# Altium schematic symbol library V2.6.0_ChipSatSchLib.SchLib: 61 symbols
Pins are listed as number, name and electrical type; pins without a type are passive.

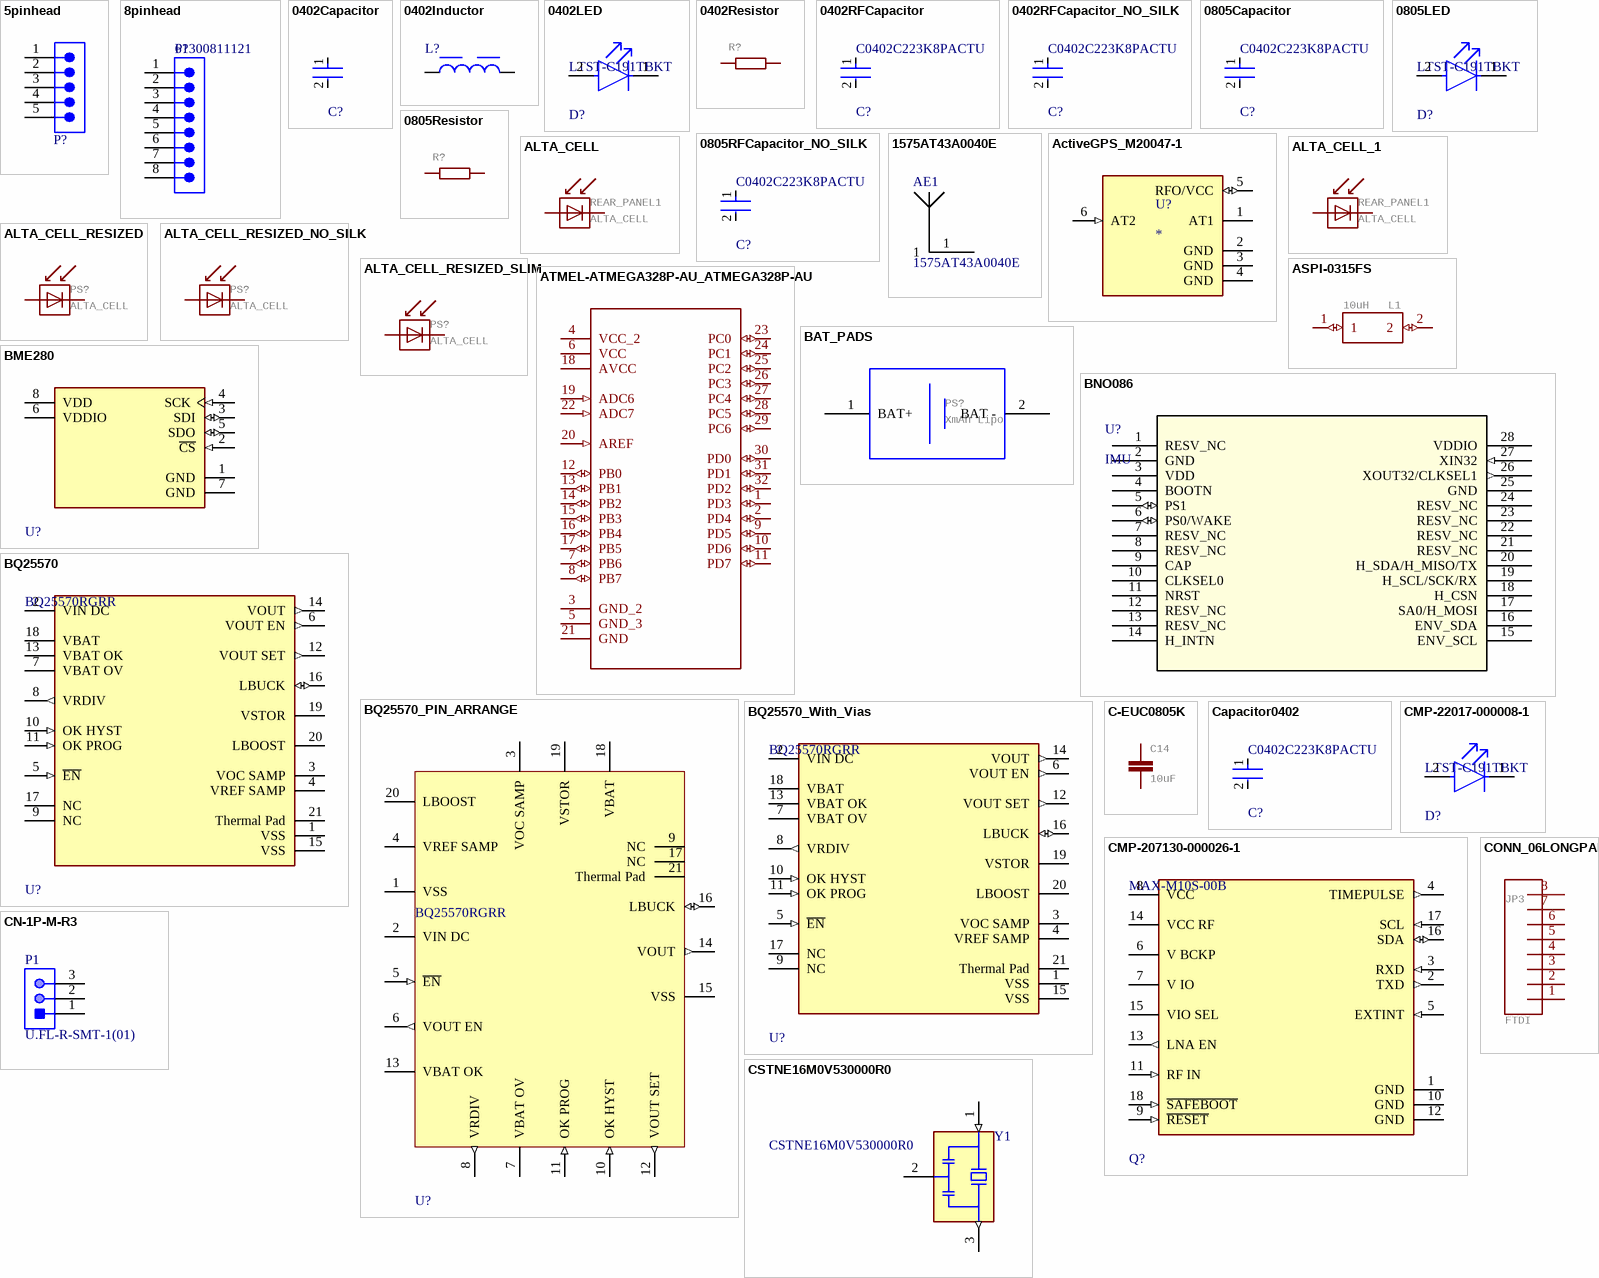
[diagram p0: symbols 5pinhead to CSTNE16M0V530000R0]

## 5pinhead
designator P?, comment 61300511121  (value not drawn)
WR-PHD Pin Header, THT, Vertical, pitch 2.54mm, 1 Row, 5P; Manufacturer: Wurth Elektronik; Contact Resistance: 20mOhm; Rated Current: 3A; Working Voltage: 250V; Withstanding Voltage: 500V; Manufacturer Part Number: 61300511121; Category: Board-to-Board Connectors; Match Code: WR-PHD; ComponentLink1Description: Website Link; ComponentLink1URL: https://www.we-online.com/redexpert/article/61300511121?ad; ComponentLink2Description: Datasheet Link; ComponentLink2URL: https://www.we-online.com/redexpert/spec/61300511121?ad; Mount: Through Hole; Operating Temperature Max: 105°C; Operating Temperature Min: -40°C; Packaging: Bag; Gender: Pin Header; Number of Pins: 5; Number of Rows: 1; Orientation: Vertical; Pitch: 2.54mm
footprint 5pinhead (Pin Header, pitch 2.54 mm, THT, Vertical, single row, 5p)
pins: 1, 2, 3, 4, 5

## 8pinhead
designator P?, comment 61300811121
NexarPartId: 32855533; Connector Type: Male Pin; Number of Contacts: 8; Voltage Rating: 250V; Current Rating: 3A; Contact Resistance: 20mΩ; Pitch: 2.54mm; Gender: Male; Termination: Solder; Contact Material: Copper; Mount: Through Hole; Lead Pitch: 2.54mm; Number of Positions: 8; Operating Supply Voltage: 250V; Number of Pins: 8; Max Operating Temperature: 105°C; Height: 8.54mm; REACH SVHC: Unknown; Number of Rows: 1; Packaging: Bulk; Contact Plating: Gold; Contact Mating Length: 5.9944mm; Orientation: Vertical; RoHS: Compliant; Color: Black; Min Operating Temperature: -40°C
footprint 8pinhead (Pin Header, pitch 2.54 mm, THT, Vertical, single row, 8p)
pins: 1, 2, 3, 4, 5, 6, 7, 8

## 0402Capacitor
designator C?
Manufacturer Part Number: C0402C223K8PACTU; Manufacturer: Kemet; Capacitance: 22,000 pF; Value: 22,000 pF; Temperature Coefficient: 15%; Material: Ceramic; Voltage Rating: 10 V; Temperature Characteristic: X5R; Tolerance: 0.1; RoHS: TRUE; Octopart: https://octopart.com/c0402c223k8pactu-kemet-140074; Category: Cap; Lead Free: Yes; Automotive: No; Height: 0.55mm; Ipc Land Pattern Name: CAPC10050X50; ComponentLink2URL: https://content.kemet.com/datasheets/KEM_C1002_X7R_SMD.pdf; Device Class L2: Capacitors; Temperature Range Low: -55°C; ComponentLink2Description: Datasheet; Mouser Description: Multilayer Ceramic Capacitors MLCC - SMD/SMT 10volts 22000pF X5R 10%; Device Class L3: Ceramic Capacitors; Package: C0402-BB; Digikey Description: CAP CER 0.022UF 10V X5R 0402; Temperature: -55°C to +125°C; Device Class L1: Passive Components; Temperature Range High: +125°C
footprint 0402CAP
pins: 1, 2

## 0402Inductor
designator L?
NexarPartId: 8917062; Tolerance: 30%; Saturation Current: 500mA; Series Resistance: 300mΩ; Shielding: Shielded; Core Material: Ferrite; Resistance: 390mΩ; Max DC Current: 800mA; Inductance: 10µH; Self Resonant Frequency: 40MHz; Test Frequency: 100kHz; RMS Current (Irms): 650mA; Min Operating Temperature: -40°C; Mount: Surface Mount; Height - Seated (Max): 1.4986mm; Width: 2.78mm; Number of Pins: 2; Ambient Temperature Range High: 85°C; Lead Free: Lead Free; Case/Package: Nonstandard; Weight: 32.006612mg; REACH SVHC: Unknown; Depth: 2.8mm; Height: 1.35mm; Length: 2.78mm; RoHS: Compliant; Max Operating Temperature: 125°C; DC Resistance (DCR): 390mΩ; Inductance Tolerance: 30%; Composition: Wirewound; Current Rating: 650mA; Ambient Temperature Range Low: -40°C; Termination: SMD/SMT; Packaging: Cut Tape (CT)
footprint 0402
pins: 1, 2

## 0402LED
designator D?, comment LTST-C191TBKT
LED BLUE CLEAR CHIP SMD; Lens Color: Colorless; Dominant Wavelength: 475nm; Forward Current: 20mA; Wavelength: 468nm; Viewing Angle: 130°; Power Dissipation: 76mW; Luminous Intensity: 180mcd; Reverse Voltage: 5V; Number of Elements: 1; Lens Style: Diffused; Forward Voltage: 3.8V; Max Power Dissipation: 75mW; Case Code (Metric): 1608; Packaging: Tape and Reel; Case/Package: 0603; Depth: 1.6mm; Mount: Surface Mount; Lead Free: Lead Free; Min Operating Temperature: -20°C; Lens Transparency: Clear; Illumination Color: Blue; Height: 0.55mm; Test Current: 20mA; Case Code (Imperial): 0603; Max Operating Temperature: 80°C; Number of Pins: 2; Length: 0.8mm; Radiation Hardening: No; Package Quantity: 1; Number of LEDs: 1; Width: 0.8mm; Color: Blue
footprint 0402LED
pins: 1 C, 2 A

## 0402Resistor
designator R?
RESISTOR, European symbol; GateName_1: G$1; SymbolName_1: R-EU; DeviceName: M0805; DeviceSetName: R-EU_; LibraryName: rcl
footprint 0402
pins: 1, 2

## 0402RFCapacitor
designator C?, comment C0402C223K8PACTU
CAP CER 0.022UF 10V X5R 0402; Manufacturer: Kemet; Capacitance: 22,000 pF; Value: 22,000 pF; Temperature Coefficient: 15%; Material: Ceramic; Tolerance: 0.1; RoHS: TRUE; Octopart: https://octopart.com/c0402c223k8pactu-kemet-140074; Category: Cap; Manufacturer Part Number: C0402C223K8PACTU; Lead Free: Yes; Automotive: No; Height: 0.55mm; Ipc Land Pattern Name: CAPC10050X50; ComponentLink2URL: https://content.kemet.com/datasheets/KEM_C1002_X7R_SMD.pdf; Device Class L2: Capacitors; Temperature Range Low: -55°C; ComponentLink2Description: Datasheet; Mouser Description: Multilayer Ceramic Capacitors MLCC - SMD/SMT 10volts 22000pF X5R 10%; Voltage Rating: 10 V; Device Class L3: Ceramic Capacitors; Package: C0402-BB; Digikey Description: CAP CER 0.022UF 10V X5R 0402; Temperature Characteristic: X5R; Temperature: -55°C to +125°C; Device Class L1: Passive Components; Temperature Range High: +125°C
footprint 0402RFCapacitor
pins: 1, 2

## 0402RFCapacitor_NO_SILK
designator C?, comment C0402C223K8PACTU
CAP CER 0.022UF 10V X5R 0402; Manufacturer: Kemet; Capacitance: 22,000 pF; Value: 22,000 pF; Temperature Coefficient: 15%; Material: Ceramic; Tolerance: 0.1; RoHS: TRUE; Octopart: https://octopart.com/c0402c223k8pactu-kemet-140074; Category: Cap; Manufacturer Part Number: C0402C223K8PACTU; Lead Free: Yes; Automotive: No; Height: 0.55mm; Ipc Land Pattern Name: CAPC10050X50; ComponentLink2URL: https://content.kemet.com/datasheets/KEM_C1002_X7R_SMD.pdf; Device Class L2: Capacitors; Temperature Range Low: -55°C; ComponentLink2Description: Datasheet; Mouser Description: Multilayer Ceramic Capacitors MLCC - SMD/SMT 10volts 22000pF X5R 10%; Voltage Rating: 10 V; Device Class L3: Ceramic Capacitors; Package: C0402-BB; Digikey Description: CAP CER 0.022UF 10V X5R 0402; Temperature Characteristic: X5R; Temperature: -55°C to +125°C; Device Class L1: Passive Components; Temperature Range High: +125°C
footprint PI_NET_CAPACITOR_0402 (Chip Capacitor, Body 1.0x0.5mm, Height 0.6mm, NO SILK)
pins: 1, 2

## 0805Capacitor
designator C?, comment C0402C223K8PACTU
CAP CER 0.022UF 10V X5R 0402; Manufacturer: Kemet; Capacitance: 22,000 pF; Value: 22,000 pF; Temperature Coefficient: 15%; Material: Ceramic; Tolerance: 0.1; RoHS: TRUE; Octopart: https://octopart.com/c0402c223k8pactu-kemet-140074; Category: Cap; Manufacturer Part Number: C0402C223K8PACTU; Lead Free: Yes; Automotive: No; Height: 0.55mm; Ipc Land Pattern Name: CAPC10050X50; ComponentLink2URL: https://content.kemet.com/datasheets/KEM_C1002_X7R_SMD.pdf; Device Class L2: Capacitors; Temperature Range Low: -55°C; ComponentLink2Description: Datasheet; Mouser Description: Multilayer Ceramic Capacitors MLCC - SMD/SMT 10volts 22000pF X5R 10%; Voltage Rating: 10 V; Device Class L3: Ceramic Capacitors; Package: C0402-BB; Digikey Description: CAP CER 0.022UF 10V X5R 0402; Temperature Characteristic: X5R; Temperature: -55°C to +125°C; Device Class L1: Passive Components; Temperature Range High: +125°C
footprint 0805Cap
pins: 1, 2

## 0805LED
designator D?, comment LTST-C191TBKT
LED BLUE CLEAR CHIP SMD; Lens Color: Colorless; Dominant Wavelength: 475nm; Forward Current: 20mA; Wavelength: 468nm; Viewing Angle: 130°; Power Dissipation: 76mW; Luminous Intensity: 180mcd; Reverse Voltage: 5V; Number of Elements: 1; Lens Style: Diffused; Forward Voltage: 3.8V; Max Power Dissipation: 75mW; Case Code (Metric): 1608; Packaging: Tape and Reel; Case/Package: 0603; Depth: 1.6mm; Mount: Surface Mount; Lead Free: Lead Free; Min Operating Temperature: -20°C; Lens Transparency: Clear; Illumination Color: Blue; Height: 0.55mm; Test Current: 20mA; Case Code (Imperial): 0603; Max Operating Temperature: 80°C; Number of Pins: 2; Length: 0.8mm; Radiation Hardening: No; Package Quantity: 1; Number of LEDs: 1; Width: 0.8mm; Color: Blue
footprint 0805LED
pins: 1 C, 2 A

## 0805Resistor
designator R?
RF RESISTOR; GateName_1: G$1; SymbolName_1: R-EU; DeviceName: M0805; DeviceSetName: R-EU_; LibraryName: rcl
footprint 0805Res
pins: 1, 2

## 0805RFCapacitor_NO_SILK
designator C?, comment C0402C223K8PACTU
CAP0805; Manufacturer: Kemet; Capacitance: 22,000 pF; Value: 22,000 pF; Temperature Coefficient: 15%; Material: Ceramic; Voltage Rating: 10 V; Temperature Characteristic: X5R; Tolerance: 0.1; RoHS: TRUE; Octopart: https://octopart.com/c0402c223k8pactu-kemet-140074; Category: Cap; Manufacturer Part Number: C0402C223K8PACTU; Lead Free: Yes; Automotive: No; Height: 0.55mm; Ipc Land Pattern Name: CAPC10050X50; ComponentLink2URL: https://content.kemet.com/datasheets/KEM_C1002_X7R_SMD.pdf; Device Class L2: Capacitors; Temperature Range Low: -55°C; ComponentLink2Description: Datasheet; Mouser Description: Multilayer Ceramic Capacitors MLCC - SMD/SMT 10volts 22000pF X5R 10%; Device Class L3: Ceramic Capacitors; Package: C0402-BB; Digikey Description: CAP CER 0.022UF 10V X5R 0402; Temperature: -55°C to +125°C; Device Class L1: Passive Components; Temperature Range High: +125°C
footprint PI_NET_CAPACITOR_0805
pins: 1, 2

## 1575AT43A0040E
designator AE1
No Description Available; Mfr_Name: Johanson Technology; Digi-Key_Part_Number_3: 712-1003-6-ND; Digi-Key_Part_Number_2: 712-1003-1-ND; Digi-Key_Part_Number_1: 712-1003-2-ND
footprint ANT_1575AT_JOT-L
pins: 1, 1

## ActiveGPS_M20047-1
designator U?
1.584GHz General Purpose Integrated, Trace RF Antenna 1.559GHz ~ 1.609GHz 3dBi Solder Surface Mount / Antenova: Active GNSS Module M20047-1 / https://www.digikey.com/en/products/detail/antenova/M20047-1/9652904?utm_source=oemsecrets&utm_medium=aggregator&utm_campaign=buynow; SnapEDA_Link: https://www.snapeda.com/parts/M20047-1/Antenova/view-part/3078289/?ref=snap; Price: None; MP: M20047-1; Availability: Warning; Value: *; MF: Antenova; Purchase-URL: https://pricing.snapeda.com/search/part/M20047-1/?ref=eda; Package: SMD-7 Antenova
footprint ActiveGPS_M20047-1 (Antenova: Active GNSS Module M20047-1)
pins: 1 AT1, 2 GND (power), 3 GND (power), 4 GND (power), 5 RFO/VCC (io), 6 AT2 (in)

## ALTA_CELL
designator REAR_PANEL1
GateName_1: G$1; SymbolName_1: ALTA_CELL; LibraryName: ALTA_CELL; DeviceSetName: ALTA_CELL
footprint ALTA_CELL_ALTA_CELL
pins: +, -

## ALTA_CELL_1
designator REAR_PANEL1, comment ALTA_CELL
GateName_1: G$1; SymbolName_1: ALTA_CELL; LibraryName: ALTA_CELL; DeviceSetName: ALTA_CELL
pins: +, -

## ALTA_CELL_RESIZED
designator PS?, comment ALTA_CELL
GateName_1: G$1; SymbolName_1: ALTA_CELL; LibraryName: ALTA_CELL; DeviceSetName: ALTA_CELL
footprint ALTA_CELL_SAME_SIZED_FEET (SAME SIZED FEET AND CORRECT POLARITY)
pins: +, -

## ALTA_CELL_RESIZED_NO_SILK
designator PS?, comment ALTA_CELL
No SILK; GateName_1: G$1; SymbolName_1: ALTA_CELL; LibraryName: ALTA_CELL; DeviceSetName: ALTA_CELL
footprint ALTA_CELL_SAME_SIZED_FEET_NO_SILK (SAME SIZED FEET AND CORRECT POLARITY AND SILK CUT)
pins: +, -

## ALTA_CELL_RESIZED_SLIM
designator PS?, comment ALTA_CELL
No SILK; GateName_1: G$1; SymbolName_1: ALTA_CELL; LibraryName: ALTA_CELL; DeviceSetName: ALTA_CELL
footprint ALTA_CELL_SAME_SIZED_FEET_SLIM (SAME SIZED FEET AND CORRECT POLARITY AND SILK CUT)
pins: +, -

## ASPI-0315FS
designator L1, comment 10uH
GateName_1: G$1; SymbolName_1: ASPI-0315FS; LibraryName: ASPI-0315FS; DeviceSetName: ASPI-0315FS
footprint 01005 imperial
pins: 1 (io), 2 (io)

## ATMEL-ATMEGA328P-AU_ATMEGA328P-AU
designator U?
MPN: ATMEGA328P-AU; GateName_1: A; SymbolName_1: ATMEL-ATMEGA328P-AU_ATMEGA328P-AU; LibraryName: AmbaSat-1v1-01-NO-solar; DeviceSetName: ATMEL-ATMEGA328P-AU_ATMEGA328P-AU; Package: ATMEL-ATMEGA328P-AU_QFP80P900X900X120-32N; OC_FARNELL: 1715486; OC_NEWARK: 14R4631; PACKAGE: TQFP-32; SUPPLIER: Atmel
footprint ATMEL-ATMEGA328P-AU_QFP80P900X900X120-32N
pins: 1 PD3 (io), 2 PD4 (io), 3 GND_2, 4 VCC_2 (power), 5 GND_3, 6 VCC (power), 7 PB6 (io), 8 PB7 (io), 9 PD5 (io), 10 PD6 (io), 11 PD7 (io), 12 PB0 (io), 13 PB1 (io), 14 PB2 (io), 15 PB3 (io), 16 PB4 (io), 17 PB5 (io), 18 AVCC (power), 19 ADC6 (in), 20 AREF (in), 21 GND, 22 ADC7 (in), 23 PC0 (io), 24 PC1 (io), 25 PC2 (io), 26 PC3 (io), 27 PC4 (io), 28 PC5 (io), 29 PC6 (io), 30 PD0 (io), 31 PD1 (io), 32 PD2 (io)

## BAT_PADS
designator PS?, comment XmAh Lipo
No SILK; GateName_1: G$1; SymbolName_1: ALTA_CELL; LibraryName: ALTA_CELL; DeviceSetName: ALTA_CELL
footprint BAT_PADS
pins: 1 BAT+, 2 BAT -

## BME280
designator U?  (value not drawn)
Temp and huminity sensor
footprint FP-BME280-MFG
pins: 1 GND (power), 2 ~{CS} (in), 3 SDI (io), 4 SCK (in), 5 SDO (io), 6 VDDIO (power), 7 GND (power), 8 VDD (power)

## BNO086
designator U?, comment IMU
No Description Available; Mfr_Name: CEVA; Type: Motion Sensors; RefDes: RefDes
footprint QFN28_BNO086_CEV
pins: 1 RESV_NC, 2 GND (power), 3 VDD (power), 4 BOOTN, 5 PS1 (io), 6 PS0/WAKE (io), 7 RESV_NC, 8 RESV_NC, 9 CAP, 10 CLKSEL0, 11 NRST, 12 RESV_NC, 13 RESV_NC, 14 H_INTN, 15 ENV_SCL, 16 ENV_SDA, 17 SA0/H_MOSI, 18 H_CSN, 19 H_SCL/SCK/RX, 20 H_SDA/H_MISO/TX, 21 RESV_NC, 22 RESV_NC, 23 RESV_NC, 24 RESV_NC, 25 GND (power), 26 XOUT32/CLKSEL1 (out), 27 XIN32 (in), 28 VDDIO (power)

## BQ25570
designator U?, comment BQ25570RGRR
IC ENERGY HARV CTRLR BATT 20VQFN; Operating Supply Current: 488nA; Switching Frequency: 1MHz; Operating Supply Voltage: 4V; Output Current: 100mA; Packaging: Tape and Reel; Lead Free: Lead Free; Contact Plating: Gold; RoHS Compliant: Yes; Mount: Surface Mount; Case/Package: VQFN; Min Operating Temperature: -40°C; Max Operating Temperature: 125°C; Package Quantity: 3000; Number of Pins: 20
footprint BQ25570 (BQ25570_CC)
pins: 1 VSS (power), 2 VIN DC (power), 3 VOC SAMP (power), 4 VREF SAMP, 5 ~{EN} (in), 6 VOUT EN (out), 7 VBAT OV (power), 8 VRDIV (out), 9 NC, 10 OK HYST (in), 11 OK PROG (in), 12 VOUT SET (out), 13 VBAT OK (power), 14 VOUT (out), 15 VSS (power), 16 LBUCK (io), 17 NC, 18 VBAT (power), 19 VSTOR, 20 LBOOST, 21 Thermal Pad

## BQ25570_PIN_ARRANGE
designator U?, comment BQ25570RGRR
IC ENERGY HARV CTRLR BATT 20VQFN; Operating Supply Current: 488nA; Switching Frequency: 1MHz; Operating Supply Voltage: 4V; Output Current: 100mA; Packaging: Tape and Reel; Lead Free: Lead Free; Contact Plating: Gold; RoHS Compliant: Yes; Mount: Surface Mount; Case/Package: VQFN; Min Operating Temperature: -40°C; Max Operating Temperature: 125°C; Package Quantity: 3000; Number of Pins: 20
footprint BQ25570_With_Vias (BQ25570_CC)
pins: 1 VSS (power), 2 VIN DC (power), 3 VOC SAMP (power), 4 VREF SAMP, 5 ~{EN} (in), 6 VOUT EN (out), 7 VBAT OV (power), 8 VRDIV (out), 9 NC, 10 OK HYST (in), 11 OK PROG (in), 12 VOUT SET (out), 13 VBAT OK (power), 14 VOUT (out), 15 VSS (power), 16 LBUCK (io), 17 NC, 18 VBAT (power), 19 VSTOR, 20 LBOOST, 21 Thermal Pad

## BQ25570_With_Vias
designator U?, comment BQ25570RGRR
IC ENERGY HARV CTRLR BATT 20VQFN; Operating Supply Current: 488nA; Switching Frequency: 1MHz; Operating Supply Voltage: 4V; Output Current: 100mA; Packaging: Tape and Reel; Lead Free: Lead Free; Contact Plating: Gold; RoHS Compliant: Yes; Mount: Surface Mount; Case/Package: VQFN; Min Operating Temperature: -40°C; Max Operating Temperature: 125°C; Package Quantity: 3000; Number of Pins: 20
footprint BQ25570_With_Vias (BQ25570_CC)
pins: 1 VSS (power), 2 VIN DC (power), 3 VOC SAMP (power), 4 VREF SAMP, 5 ~{EN} (in), 6 VOUT EN (out), 7 VBAT OV (power), 8 VRDIV (out), 9 NC, 10 OK HYST (in), 11 OK PROG (in), 12 VOUT SET (out), 13 VBAT OK (power), 14 VOUT (out), 15 VSS (power), 16 LBUCK (io), 17 NC, 18 VBAT (power), 19 VSTOR, 20 LBOOST, 21 Thermal Pad

## C-EUC0805K
designator C14, comment 10uF
CAPACITOR, European symbol; GateName_1: G$1; SymbolName_1: C-EU; DeviceName: C0805K; LibraryName: rcl; DeviceSetName: C-EU
footprint 01005 imperial
pins: 1, 2

## Capacitor0402
designator C?, comment C0402C223K8PACTU
CAP CER 0.022UF 10V X5R 0402; Manufacturer: Kemet; Capacitance: 22,000 pF; Value: 22,000 pF; Temperature Coefficient: 15%; Material: Ceramic; Tolerance: 0.1; RoHS: TRUE; Octopart: https://octopart.com/c0402c223k8pactu-kemet-140074; Category: Cap; Manufacturer Part Number: C0402C223K8PACTU; Lead Free: Yes; Automotive: No; Height: 0.55mm; Ipc Land Pattern Name: CAPC10050X50; ComponentLink2URL: https://content.kemet.com/datasheets/KEM_C1002_X7R_SMD.pdf; Device Class L2: Capacitors; Temperature Range Low: -55°C; ComponentLink2Description: Datasheet; Mouser Description: Multilayer Ceramic Capacitors MLCC - SMD/SMT 10volts 22000pF X5R 10%; Voltage Rating: 10 V; Device Class L3: Ceramic Capacitors; Package: C0402-BB; Digikey Description: CAP CER 0.022UF 10V X5R 0402; Temperature Characteristic: X5R; Temperature: -55°C to +125°C; Device Class L1: Passive Components; Temperature Range High: +125°C
footprint 0402
pins: 1, 2

## CMP-22017-000008-1
designator D?, comment LTST-C191TBKT
LED BLUE CLEAR CHIP SMD; Lens Color: Colorless; Dominant Wavelength: 475nm; Forward Current: 20mA; Wavelength: 468nm; Viewing Angle: 130°; Power Dissipation: 76mW; Luminous Intensity: 180mcd; Reverse Voltage: 5V; Number of Elements: 1; Lens Style: Diffused; Forward Voltage: 3.8V; Max Power Dissipation: 75mW; Case Code (Metric): 1608; Packaging: Tape and Reel; Case/Package: 0603; Depth: 1.6mm; Mount: Surface Mount; Lead Free: Lead Free; Min Operating Temperature: -20°C; Lens Transparency: Clear; Illumination Color: Blue; Height: 0.55mm; Test Current: 20mA; Case Code (Imperial): 0603; Max Operating Temperature: 80°C; Number of Pins: 2; Length: 0.8mm; Radiation Hardening: No; Package Quantity: 1; Number of LEDs: 1; Width: 0.8mm; Color: Blue
footprint FP-LTST-C191TBKT-MFG
pins: 1 C, 2 A

## CMP-207130-000026-1
designator Q?, comment MAX-M10S-00B
GNSS LCC RX, ROM, TCXO, LNA, SAW
footprint FP-MAX-M10S-00B-MFG - duplicate
pins: 1 GND (power), 2 TXD (out), 3 RXD (in), 4 TIMEPULSE (out), 5 EXTINT (in), 6 V BCKP (power), 7 V IO (power), 8 VCC (power), 9 ~{RESET} (in), 10 GND (power), 11 RF IN (in), 12 GND (power), 13 LNA EN (out), 14 VCC RF (power), 15 VIO SEL (power), 16 SDA (io), 17 SCL (in), 18 ~{SAFEBOOT} (in)

## CN-1P-M-R3
designator P1, comment U.FL-R-SMT-1(01)
Ultra Small Coaxial Connector, 6 GHz, -40 to 90 degC, 3-Pin SMD, RoHS, Bulk; Manufacturer: Hirose Electric; Connector Style: U.FL; Impedance: 50Ohm; Dielectric Material: LiquidCrystalPolymer(LCP); Minimum Quantity: UltraMiniatureCoaxial; Online Catalog: U.FLSeries; Featured Product: HiroseU.FLSeries; Frequency - Max: 6GHz; Other Names: H122041 / U.FL-R-SMT-1(01)-ND; Contact Termination: Solder; Body Material: PhosphorBronze; Connector Type: Jack,MalePin; Body Finish: Silver; Center Contact Plating: Gold; Manufacturer URL: https://www.hirose.com; Family: CoaxialConnectors(RF); Fastening Type: Snap-On; Unit PriceUSD: U.FL; Series: U.FL; Package Reference: U.FL-R-SMT; Packaging: Bulk; Standard Package: 100; Mounting Type: SurfaceMount; Quantity Available: Bulk; Housing Color: Silver; Package Description: 3-Pin Surface Mount Device, Body 2.6 x 2.6 mm; Category: Connectors,Interconnects; Operating Temperature: -40degC~90degC; Center Contact Material: PhosphorBronze; Dynamic Catalog: U.FLSeries; Datasheet URL: https://datasheet.ciiva.com/26945/getdatasheetpartid-475239-26945414.pdf; Datasheet Version: Feb-09; Shield Termination: Solder
footprint HRS-U.FL-R-SMT-3_V (SMT, 3-Leads, Body 2.6x2.6mm)
pins: 1, 2, 3

## CONN_06LONGPADS
designator JP3, comment FTDI
Multi connection point. Often used as Generic Header-pin footprint for 0.1 inch spaced/style header connections    On any of the 0.1 inch spaced packages, you can populate with these:  Break Away Headers - Straight (PRT-00116)   Break Away Male Headers - Right Angle (PRT-00553)   Female Headers (PRT-00115)   Break Away Headers - Machine Pin (PRT-00117)   Break Away Female Headers - Swiss Machine Pin (PRT-00743)   Arduino Stackable Header - 6 Pin (PRT-09280)        For SCREWTERMINALS and SPRING TERMINALS visit here:  Screw Terimnals on SparkFun.com (5mm/3.5mm/2.54mm spacing)       This device is also useful as a general connection point to wire up your design to another part of your project. Our various solder wires solder well into these plated through hole pads.  Hook-Up Wire - Assortment (Stranded, 22 AWG) (PRT-11375)   Hook-Up Wire - Assortment (Solid Core, 22 AWG) (PRT-11367)   View the entire wire category on our website here; GateName_1: G$1; SymbolName_1: CONN_06; DeviceName: LONGPADS; LibraryName: SparkFun-Connectors; DeviceSetName: CONN_06
footprint 1X08_OVAL
pins: 1, 2, 3, 4, 5, 6, 7, 8

## CSTNE16M0V530000R0
designator Y1
16MHz Ceramic Resonator Built in Capacitor 15pF Â±0.15% 40 Ohms -40Â°C ~ 125Â°C Surface Mount; MF: {'manufacturer': u'Murata Electronics'}; Value: *; Availability: Unavailable; MP: CSTNE16M0V530000R0; Price: None; Package: None
footprint OSC_CSTNE16M0V530000R0
pins: 1 IN (in), 2 GND (power), 3 OUT (out)

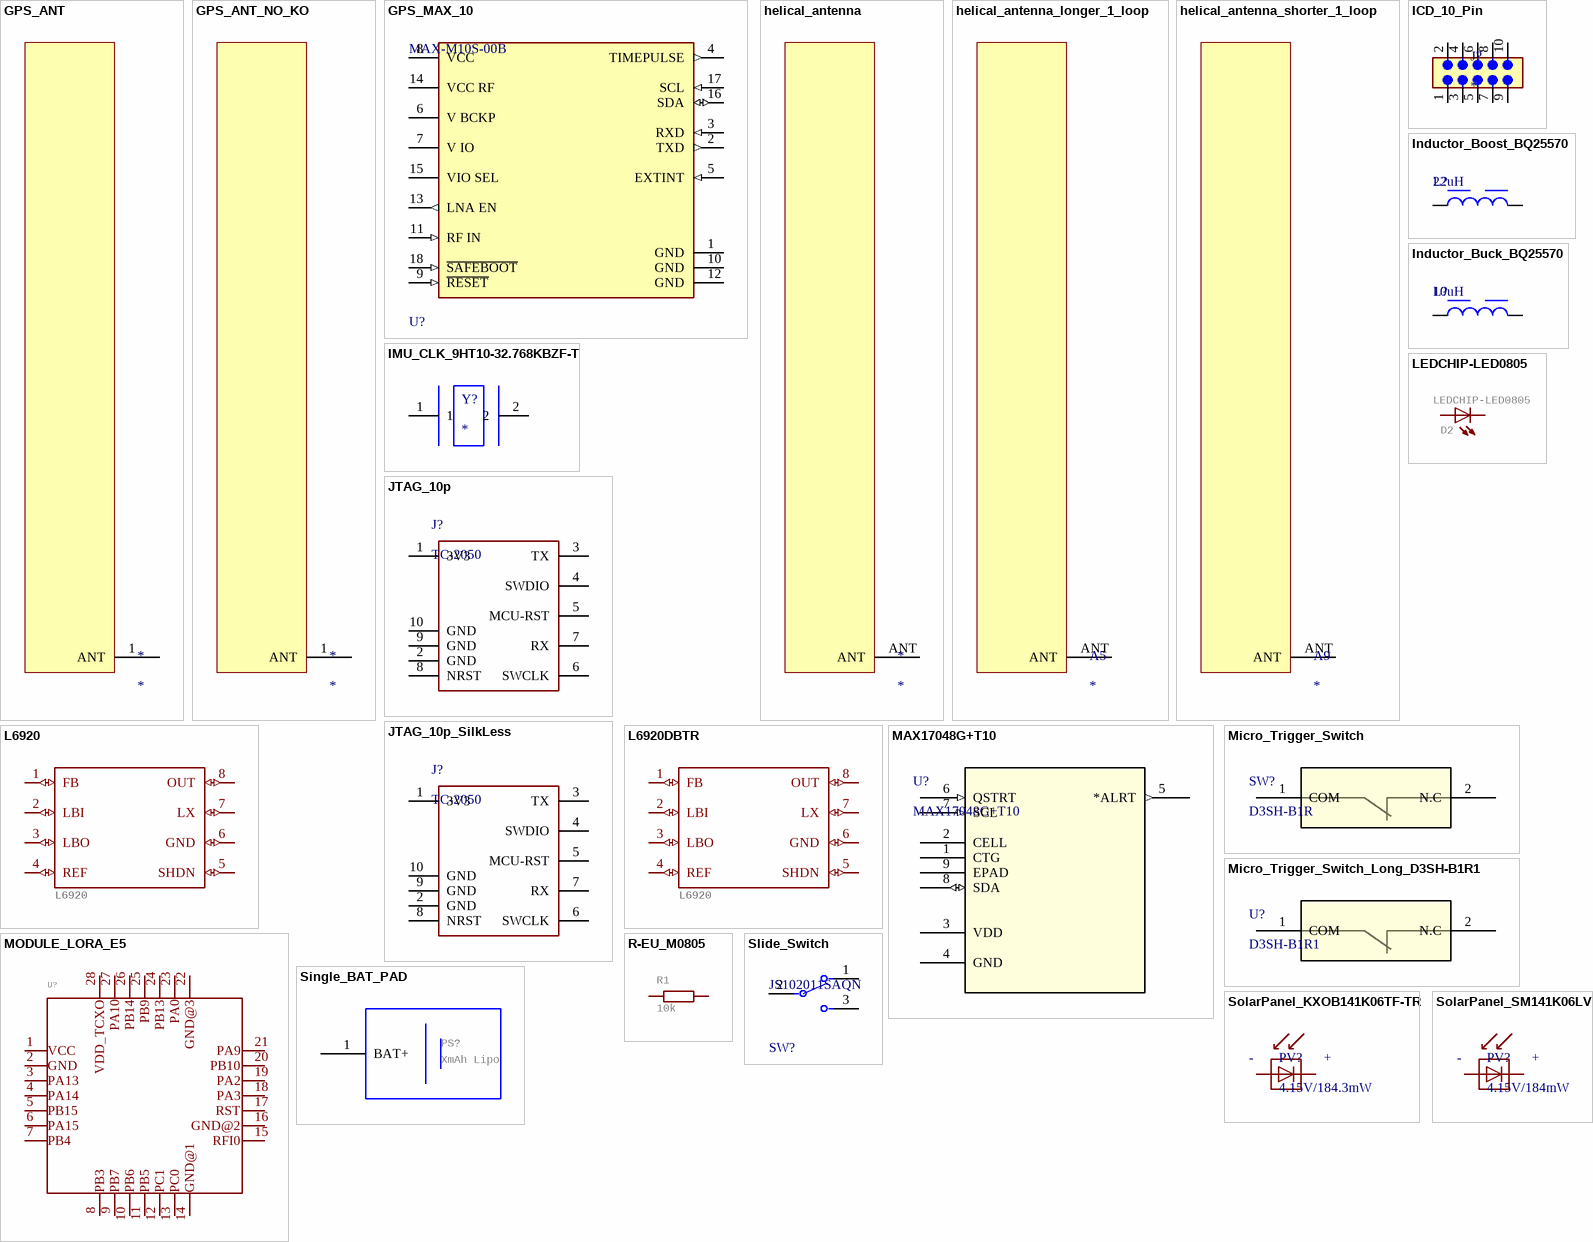
[diagram p1: symbols GPS_ANT to SolarPanel_SM141K06LV]

## GPS_ANT
designator *
helical_antenna schematic for the DeSCENT v1 ChipSat
footprint ANT_1575AT_JOT-L
pins: 1 ANT

## GPS_ANT_NO_KO
designator *
helical_antenna schematic for the DeSCENT v1 ChipSat
footprint GPS_ANT_NO_KO
pins: 1 ANT

## GPS_MAX_10
designator U?, comment MAX-M10S-00B
GNSS LCC RX, ROM, TCXO, LNA, SAW
footprint GPS_MAX_10
pins: 1 GND (power), 2 TXD (out), 3 RXD (in), 4 TIMEPULSE (out), 5 EXTINT (in), 6 V BCKP (power), 7 V IO (power), 8 VCC (power), 9 ~{RESET} (in), 10 GND (power), 11 RF IN (in), 12 GND (power), 13 LNA EN (out), 14 VCC RF (power), 15 VIO SEL (power), 16 SDA (io), 17 SCL (in), 18 ~{SAFEBOOT} (in)

## helical_antenna
designator *
helical_antenna schematic for the DeSCENT v1 ChipSat
footprint PCBComponent_1
pins: ANT

## helical_antenna_longer_1_loop
designator A5
helical_antenna schematic for the DeSCENT v1 ChipSat
footprint LoRa_ANT_915_longer_1_loop
pins: ANT

## helical_antenna_shorter_1_loop
designator A9
helical_antenna schematic for the DeSCENT v1 ChipSat
footprint LoRa_ANT_915_shorter_1_loop
pins: ANT

## ICD_10_Pin
designator J?
61201021621 / ICD_CONN_10_Pin; MF: {'manufacturer': u'W\xfcrth Elektronik'}; Package: None; Price: None; Value: *; MP: 61201021621; Availability: Unavailable
footprint ICD_10_Pin (61201021621)
pins: 1, 2, 3, 4, 5, 6, 7, 8, 9, 10

## IMU_CLK_9HT10-32.768KBZF-T
designator Y?
32.768 kHz Â±50ppm Crystal 12.5pF 70 kOhms 2-SMD, No Lead; MF: TXC; MP: 9HT10-32.768KBZF-T; SnapEDA_Link: https://www.snapeda.com/parts/9HT10-32.768KBZF-T/TXC/view-part/?ref=snap; Package: SMD-2 TXC Corporation; Value: *; Check_prices: https://www.snapeda.com/parts/9HT10-32.768KBZF-T/TXC/view-part/?ref=eda
footprint IMU_CLK_XTAL320X150X75
pins: 1, 2

## Inductor_Boost_BQ25570
designator L?, comment 22uH
744031220; NexarPartId: 22866169; Series Resistance: 450mΩ; Self Resonant Frequency: 26MHz; Core Material: Ferrite; Current Rating: 510mA; Test Frequency: 100kHz; Tolerance: 30%; Saturation Current: 360mA; Inductance: 22µH; DC Resistance (DCR): 410mΩ; Width: 3.8mm; Ambient Temperature Range High: 95°C; Number of Pins: 2; Ambient Temperature Range Low: -40°C; Min Operating Temperature: -40°C; Packaging: Tape & Reel (TR); Height: 1.65mm; RoHS: Compliant; Composition: Wirewound; RMS Current (Irms): 510mA; Max Operating Temperature: 125°C; Inductance Tolerance: 30%; Length: 3.8mm
footprint Inductor_Boost_BQ25570 (Power Inductor, SMD, 2-Leads, body 3.8x3.8mm / 744031220 / Wuerth)
pins: 1, 2

## Inductor_Buck_BQ25570
designator L?, comment 10uH
744029100; NexarPartId: 8917062; Tolerance: 30%; Saturation Current: 500mA; Series Resistance: 300mΩ; Shielding: Shielded; Core Material: Ferrite; Resistance: 390mΩ; Max DC Current: 800mA; Inductance: 10µH; Self Resonant Frequency: 40MHz; Test Frequency: 100kHz; RMS Current (Irms): 650mA; Min Operating Temperature: -40°C; Mount: Surface Mount; Height - Seated (Max): 1.4986mm; Width: 2.78mm; Number of Pins: 2; Ambient Temperature Range High: 85°C; Lead Free: Lead Free; Case/Package: Nonstandard; Weight: 32.006612mg; REACH SVHC: Unknown; Depth: 2.8mm; Height: 1.35mm; Length: 2.78mm; RoHS: Compliant; Max Operating Temperature: 125°C; DC Resistance (DCR): 390mΩ; Inductance Tolerance: 30%; Composition: Wirewound; Current Rating: 650mA; Ambient Temperature Range Low: -40°C; Termination: SMD/SMT; Packaging: Cut Tape (CT)
footprint Inductor_Buck_BQ25570 (Power Inductor, SMD, 2-Leads, body 2.78x2.78mm / 744029100 / Wuerth)
pins: 1, 2

## JTAG_10p
designator J?, comment TC-2050
JTAG 10Pos Connector
footprint JTAG_10p
pins: 1 3V3, 2 GND, 3 TX, 4 SWDIO, 5 MCU-RST, 6 SWCLK, 7 RX, 8 NRST, 9 GND, 10 GND

## JTAG_10p_SilkLess
designator J?, comment TC-2050
JTAG 10Pos Connector
footprint JTAG_10p_SilkLess
pins: 1 3V3, 2 GND, 3 TX, 4 SWDIO, 5 MCU-RST, 6 SWCLK, 7 RX, 8 NRST, 9 GND, 10 GND

## L6920
designator U3
Voltage stepper upper L6920DTR model; GateName_1: G$1; SymbolName_1: L6920; LibraryName: L6920; DeviceSetName: L6920
footprint L6920_L6920
pins: 1 FB (io), 2 LBI (io), 3 LBO (io), 4 REF (io), 5 SHDN (io), 6 GND (io), 7 LX (io), 8 OUT (io)

## L6920DBTR
designator U3, comment L6920
Voltage stepper upper L6920DTR model; GateName_1: G$1; SymbolName_1: L6920; LibraryName: L6920; DeviceSetName: L6920
footprint L6920DBTR
pins: 1 FB (io), 2 LBI (io), 3 LBO (io), 4 REF (io), 5 SHDN (io), 6 GND (io), 7 LX (io), 8 OUT (io)

## LEDCHIP-LED0805
designator D2
LED   OSRAM: - CHIPLED LG R971, LG N971, LY N971, LG Q971, LY Q971, LO R971, LY R971 LH N974, LH R974 LS Q976, LO Q976, LY Q976 LO Q996 - Hyper CHIPLED LW Q18S LB Q993, LB Q99A, LB R99A - SideLED LS A670, LO A670, LY A670, LG A670, LP A670 LB A673, LV A673, LT A673, LW A673 LH A674 LY A675 LS A676, LA A676, LO A676, LY A676, LW A676 LS A679, LY A679, LG A679 -  Hyper Micro SIDELEDÂ® LS Y876, LA Y876, LO Y876, LY Y876 LT Y87S - SmartLED LW L88C, LW L88S LB L89C, LB L89S, LG L890 LS L89K, LO L89K, LY L89K LS L896, LA L896, LO L896, LY L896 - TOPLED LS T670, LO T670, LY T670, LG T670, LP T670 LSG T670, LSP T670, LSY T670, LOP T670, LYG T670 LG T671, LOG T671, LSG T671 LB T673, LV T673, LT T673, LW T673 LH T674 LS T676, LA T676, LO T676, LY T676, LB T676, LH T676, LSB T676, LW T676 LB T67C, LV T67C, LT T67C, LS T67K, LO T67K, LY T67K, LW E67C LS E67B, LA E67B, LO E67B, LY E67B, LB E67C, LV E67C, LT E67C LW T67C LS T679, LY T679, LG T679 LS T770, LO T770, LY T770, LG T770, LP T770 LB T773, LV T773, LT T773, LW T773 LH T774 LS E675, LA E675, LY E675, LS T675 LS T776, LA T776, LO T776, LY T776, LB T776 LHGB T686 LT T68C, LB T68C - Hyper Mini TOPLEDÂ® LB M676 - Mini TOPLED SantanaÂ® LG M470 LS M47K, LO M47K, LY M47K    Source: http://www.osram.convergy.de   LUXEON: - LUMILEDÂ® LXK2-PW12-R00, LXK2-PW12-S00, LXK2-PW14-U00, LXK2-PW14-V00 LXK2-PM12-R00, LXK2-PM12-S00, LXK2-PM14-U00 LXK2-PE12-Q00, LXK2-PE12-R00, LXK2-PE12-S00, LXK2-PE14-T00, LXK2-PE14-U00 LXK2-PB12-K00, LXK2-PB12-L00, LXK2-PB12-M00, LXK2-PB14-N00, LXK2-PB14-P00, LXK2-PB14-Q00 LXK2-PR12-L00, LXK2-PR12-M00, LXK2-PR14-Q00, LXK2-PR14-R00 LXK2-PD12-Q00, LXK2-PD12-R00, LXK2-PD12-S00 LXK2-PH12-R00, LXK2-PH12-S00 LXK2-PL12-P00, LXK2-PL12-Q00, LXK2-PL12-R00    Source: www.luxeon.com   KINGBRIGHT:   KA-3528ASYC Source: www.kingbright.com; GateName_1: G$1; SymbolName_1: LED; DeviceName: CHIP-LED0805; LibraryName: led; DeviceSetName: LED
footprint 0201
pins: 1 A, 2 C

## MAX17048G+T10
designator U?
3ÂµA 1-Cell/2-Cell Fuel Gauge with ModelGauge / https://www.digikey.com/en/products/detail/analog-devices-inc-maxim-integrated/MAX17048G-T10/3758921; Manufacturer_Name: Analog Devices Inc; Copyright: Copyright (C) 2026 Ultra Librarian. All rights reserved.; Manufacturer_Part_Number: MAX17048G+T10; RefDes: RefDes; Type: Type
footprint MAX17048G+T10 (https://www.digikey.com/en/products/detail/analog-devices-inc-maxim-integrated/MAX17048G-T10/3758921)
pins: 1 CTG, 2 CELL, 3 VDD (power), 4 GND (power), 5 *ALRT (out), 6 QSTRT (in), 7 SCL (in), 8 SDA (io), 9 EPAD

## Micro_Trigger_Switch
designator SW?, comment D3SH-B1R
D3SH-B1R / SWITCH DETECT SPST-NC 0.001A 5V / Switch SPST-NC Surface Mount, Right Angle; Manufacturer_Name: Omron; Copyright: Copyright (C) 2025 Ultra Librarian. All rights reserved.; Manufacturer_Part_Number: D3SH-B1R; RefDes: RefDes; Type: Type
footprint Micro_Trigger_Switch
pins: 1 COM, 2 N.C

## Micro_Trigger_Switch_Long_D3SH-B1R1
designator U?, comment D3SH-B1R1
Micro_Trigger_Switch_Long_D3SH-B1R1; Manufacturer_Name: Omron; Copyright: Copyright (C) 2025 Ultra Librarian. All rights reserved.; Manufacturer_Part_Number: D3SH-B1R1; RefDes: RefDes; Type: Type
footprint Micro_Trigger_Switch_Long_D3SH-B1R1 (Micro_Trigger_Switch_D3SH-B1R1)
pins: 1 COM, 2 N.C

## MODULE_LORA_E5
designator U?
GateName_1: G$1; SymbolName_1: MOUDLE_LORA_E5; DeviceSetName: MODULE_LORA_E5; LibraryName: LORA-E5_Eagle_Library; Package: MODULE28P-1.25-12X12X2.5MM
footprint MODULE28P-1.25-12X12X2.5MM
pins: 1 VCC (io), 2 GND (io), 3 PA13 (io), 4 PA14 (io), 5 PB15 (io), 6 PA15 (io), 7 PB4 (io), 8 PB3 (io), 9 PB7 (io), 10 PB6 (io), 11 PB5 (io), 12 PC1 (io), 13 PC0 (io), 14 GND@1 (io), 15 RFI0 (io), 16 GND@2 (io), 17 RST (io), 18 PA3 (io), 19 PA2 (io), 20 PB10 (io), 21 PA9 (io), 22 GND@3 (io), 23 PA0 (io), 24 PB13 (io), 25 PB9 (io), 26 PB14 (io), 27 PA10 (io), 28 VDD_TCXO (io)

## R-EU_M0805
designator R1, comment 10k
RESISTOR, European symbol; GateName_1: G$1; SymbolName_1: R-EU; DeviceName: M0805; DeviceSetName: R-EU_; LibraryName: rcl
footprint 01005 imperial
pins: 1, 2

## Single_BAT_PAD
designator PS?, comment XmAh Lipo
No SILK; GateName_1: G$1; SymbolName_1: ALTA_CELL; LibraryName: ALTA_CELL; DeviceSetName: ALTA_CELL
footprint Single_Bat_Pad (This is kinda stupid. but its a single bat pad)
pins: 1 BAT+

## Slide_Switch
designator SW?, comment JS102011SAQN
SWITCH SLIDE SPDT 300MA 6V / JS102011SAQN; Switch Function: On-On; Illumination Type: Non-Illuminated; Switch Travel: 2mm; Contact Resistance: 70mR; Actuator Material: Nylon; Electrical Life: 5000Cycles; Actuator Type: Standard; Max Operating Temperature: 85°C; Housing Material: Nylon; Radiation Hardening: No; Max Voltage Rating (DC): 6V; Package Quantity: 1; Case/Package: 100; Actuator Length: 2mm; Min Operating Temperature: -40°C; Contact Current Rating: 300mA; REACH SVHC: No SVHC; Throw Configuration: SPDT; Packaging: Tape and Reel; Contact Material: Copper Alloy; Max Current Rating: 300mA; Current Rating: 300mA; Mount: Surface Mount; Lead Free: Lead Free; Termination: Gull Wing; Voltage Rating (DC): 6V; Length: 9mm; Orientation: Right Angle; Contact Plating: Silver
footprint Slide_Switch (JS102011SAQN)
pins: 1, 2 C, 3

## SolarPanel_KXOB141K06TF-TR
designator PV?, comment 4.15V/184.3mW
KXOB141K06TF-TR / https://www.digikey.com/en/products/detail/anysolar-ltd/KXOB141K06TF-TR/13999140?s=N4IgTCBcDaINIA0DyAhAjAFjXADANgBUAxAWgICUAdSkAXQF8g
footprint SolarPanel_KXOB141K06TF-TR (KXOB141K06TF-TR)
pins: 1 +, 2 -

## SolarPanel_SM141K06LV
designator PV?, comment 4.15V/184mW
SM141K06LV Solar Panel / https://www.digikey.com/en/products/detail/anysolar-ltd/SM141K06LV/13181300
footprint SM141K06LV (Solar Cell (SM141K06LV))
pins: 1 +, 2 -

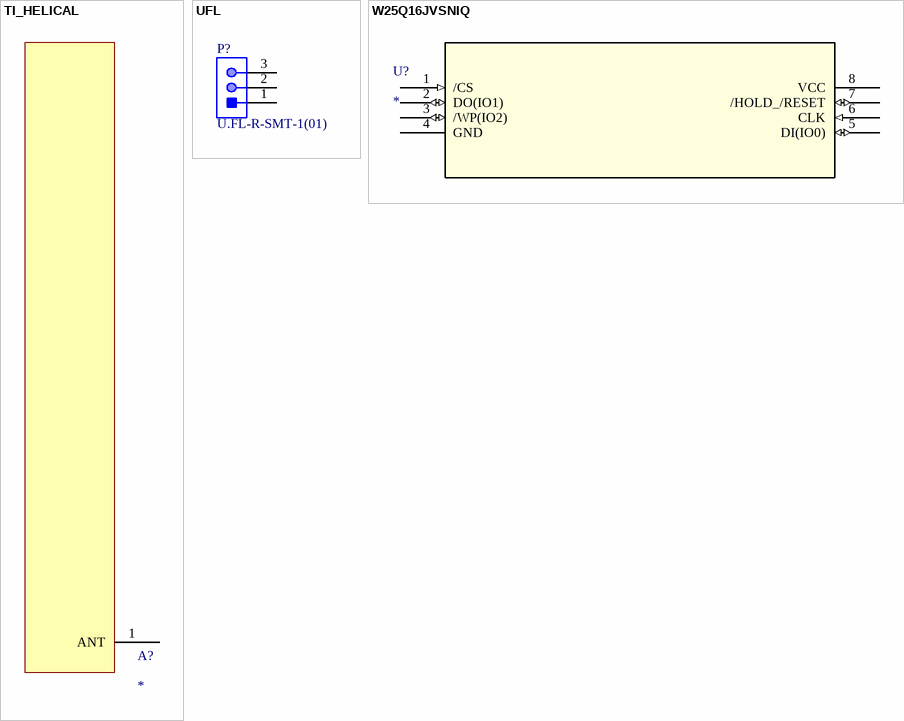
[diagram p2: symbols TI_HELICAL to W25Q16JVSNIQ]

## TI_HELICAL
designator A?
helical_antenna schematic for the DeSCENT v1 ChipSat
footprint TI_HELICAL (https://www.ti.com/lit/an/swra416/swra416.pdf?ts=1758177641491&ref_url=https%253A%252F%252Fduckduckgo.com%252F)
pins: 1 ANT

## UFL
designator P?, comment U.FL-R-SMT-1(01)
Ultra Small Coaxial Connector, 6 GHz, -40 to 90 degC, 3-Pin SMD, RoHS, Bulk; Manufacturer: Hirose Electric; Connector Style: U.FL; Impedance: 50Ohm; Dielectric Material: LiquidCrystalPolymer(LCP); Minimum Quantity: UltraMiniatureCoaxial; Online Catalog: U.FLSeries; Featured Product: HiroseU.FLSeries; Frequency - Max: 6GHz; Other Names: H122041 / U.FL-R-SMT-1(01)-ND; Contact Termination: Solder; Body Material: PhosphorBronze; Connector Type: Jack,MalePin; Body Finish: Silver; Center Contact Plating: Gold; Manufacturer URL: https://www.hirose.com; Family: CoaxialConnectors(RF); Fastening Type: Snap-On; Unit PriceUSD: U.FL; Series: U.FL; Package Reference: U.FL-R-SMT; Packaging: Bulk; Standard Package: 100; Mounting Type: SurfaceMount; Quantity Available: Bulk; Housing Color: Silver; Package Description: 3-Pin Surface Mount Device, Body 2.6 x 2.6 mm; Category: Connectors,Interconnects; Operating Temperature: -40degC~90degC; Center Contact Material: PhosphorBronze; Dynamic Catalog: U.FLSeries; Datasheet URL: https://datasheet.ciiva.com/26945/getdatasheetpartid-475239-26945414.pdf; Datasheet Version: Feb-09; Shield Termination: Solder
footprint UFL (SMT, 3-Leads, Body 2.6x2.6mm)
pins: 1, 2, 3

## W25Q16JVSNIQ
designator U?
No Description Available; Mfr_Name: Winbond; RefDes: RefDes; Type: Type
footprint SOIC_150MIL_WIN
pins: 1 /CS (in), 2 DO(IO1) (io), 3 /WP(IO2) (io), 4 GND (power), 5 DI(IO0) (io), 6 CLK (in), 7 /HOLD_/RESET (io), 8 VCC (power)